# Altium footprint library COIL-4K.PcbLib: 1 footprints
Each footprint in its own frame and in the unit in brackets; x right, y up, seen from the top. Pads: shape width x height; smd on the part's side, far side on the other; paste and mask are expansions set on the pad; w line width, h text height; cw(c..) or ccw(c..) is an arc to the next point about the centre after c.
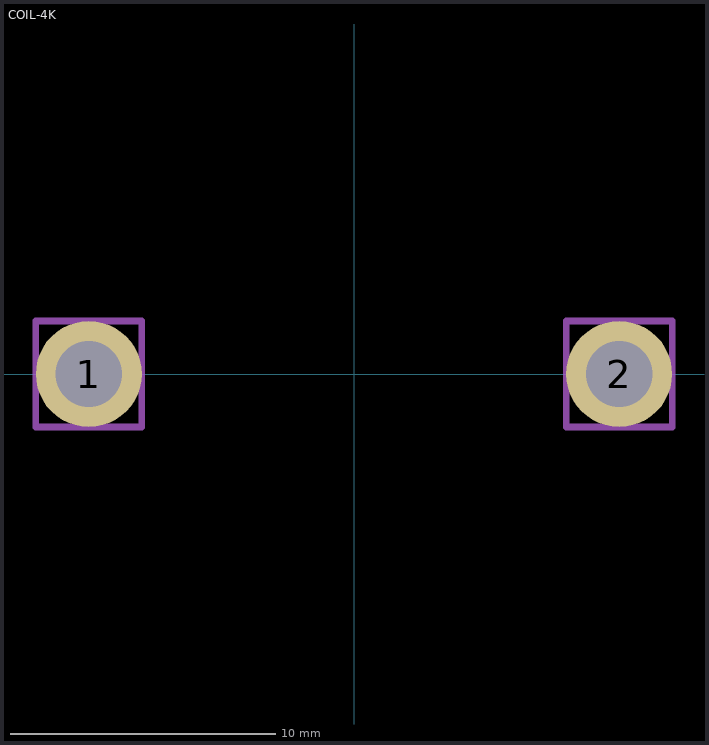
[diagram p0: the footprint, top view; thin cyan lines are the x and y axes]

## COIL-4K [mm]
pads (2):
  round 4 hole 2.5: 1(-10,0) 2(10,0)
Top Assembly:
  lines w0.254: -12,-2 -8,-2 -8,2 -12,2 -12,-2 ; 8,-2 12,-2 12,2 8,2 8,-2
  text "'.Designator'" at 0,0 h0.7